# Altium footprint library 杂项库.PcbLib: 585 footprints (part 28 of 37)
Each footprint in its own frame and in the unit in brackets; x right, y up, seen from the top. Pads: shape width x height; smd on the part's side, far side on the other; paste and mask are expansions set on the pad; w line width, h text height; cw(c..) or ccw(c..) is an arc to the next point about the centre after c.
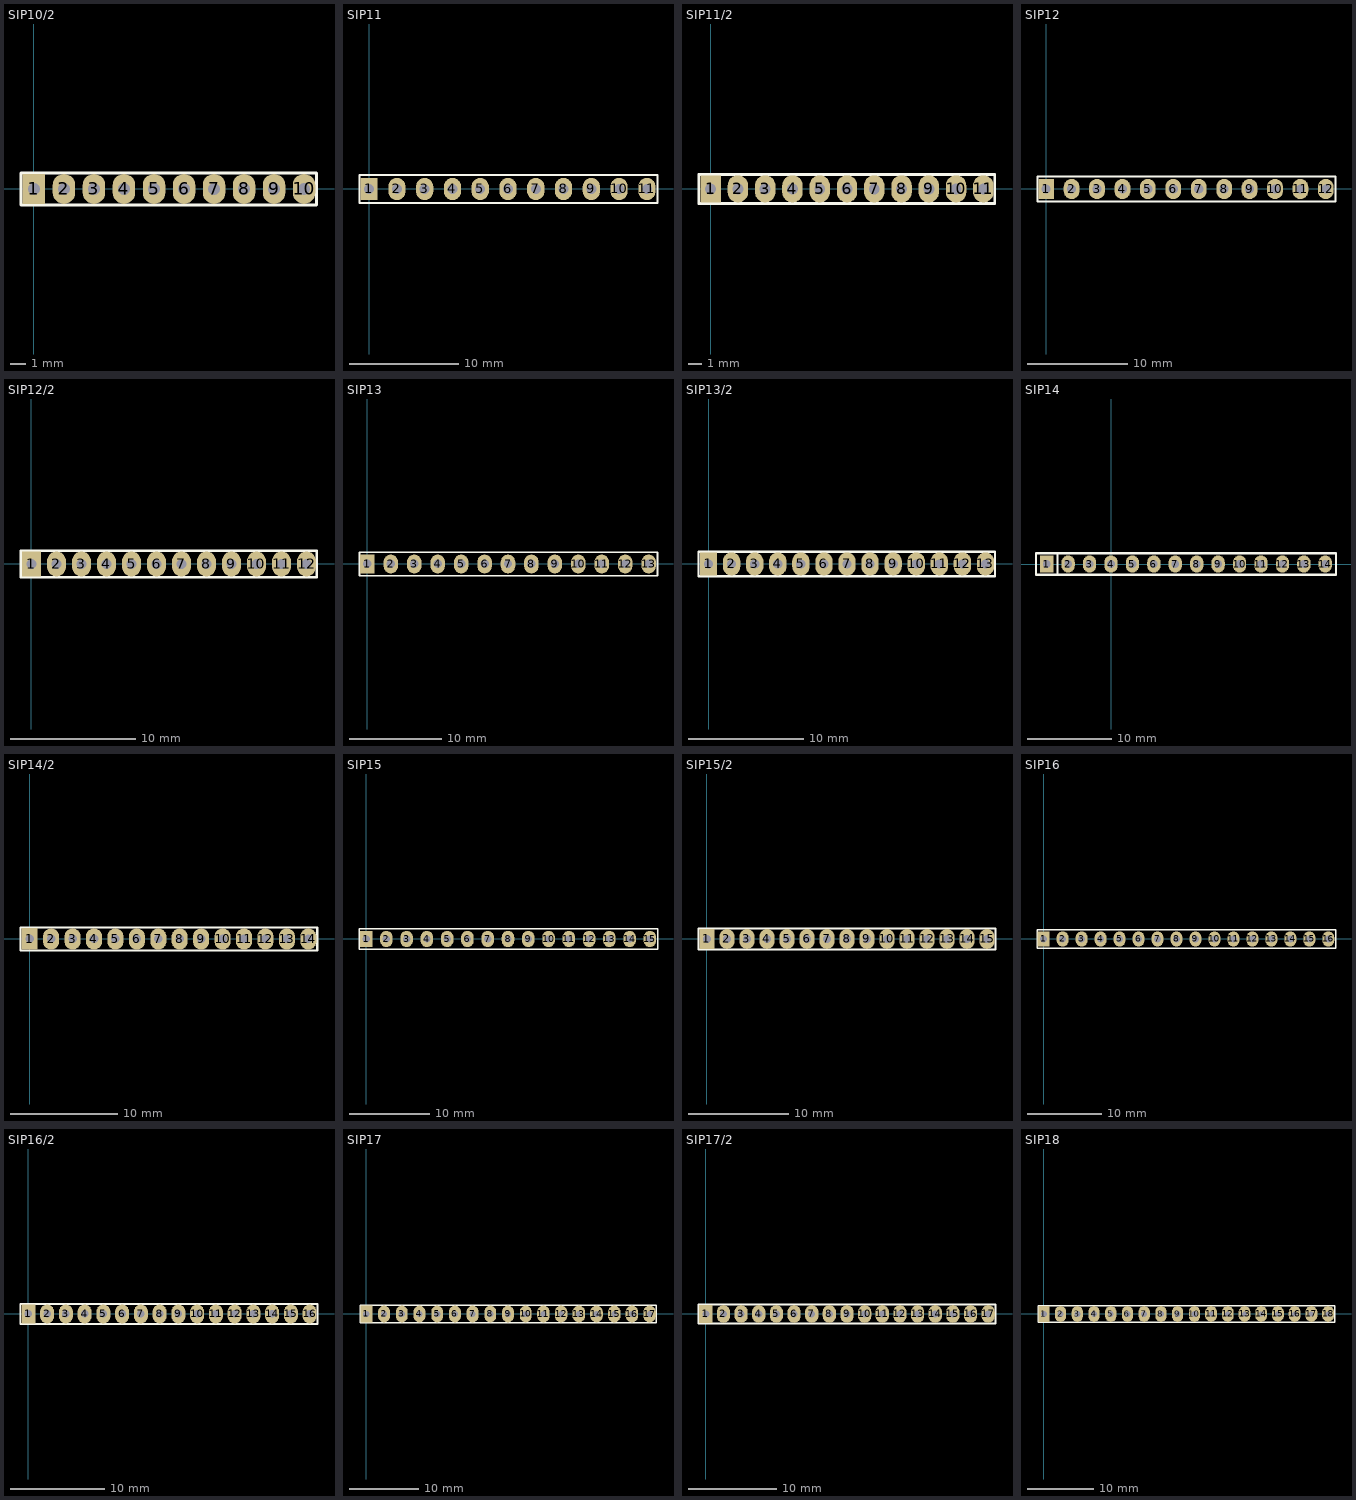
[diagram p27: the footprints below, top view; thin cyan lines are the x and y axes]

## SIP10/2 [mm]
pads (10):
  rect 1.5x2 hole 0.8: 1(0,0)
  oval 1.5x2 hole 0.8: 2(2,0) 3(4,0) 4(6,0) 5(8,0) 6(10,0) 7(12,0) 8(14,0) 9(16,0) 10(18,0)
Top Overlay:
  lines w0.2: -0.865,-1.074 18.835,-1.074 18.835,1.066 -0.865,1.066 -0.865,-1.074

## SIP11 [mil]
pads (11):
  rect 62x80 hole 36: 1(0,0)
  oval 62x80 hole 36: 2(100,0) 3(200,0) 4(300,0) 5(400,0) 6(500,0) 7(600,0) 8(700,0) 9(800,0) 10(900,0) 11(1000,0)
Top Overlay:
  lines w7.87: -34.07,-50.15 -34.07,49.85 1038.37,49.85 1038.37,-50.15 -34.07,-50.15

## SIP11/2 [mm]
pads (11):
  rect 1.5x2 hole 0.8: 1(0,0)
  oval 1.5x2 hole 0.8: 2(2,0) 3(4,0) 4(6,0) 5(8,0) 6(10,0) 7(12,0) 8(14,0) 9(16,0) 10(18,0) 11(20,0)
Top Overlay:
  lines w0.2: -0.865,-1.074 -0.865,1.066 20.835,1.066 20.835,-1.074 -0.865,-1.074

## SIP12 [mil]
pads (12):
  rect 62x80 hole 36: 1(0,0)
  oval 62x80 hole 36: 2(100,0) 3(200,0) 4(300,0) 5(400,0) 6(500,0) 7(600,0) 8(700,0) 9(800,0) 10(900,0) 11(1000,0) 12(1100,0)
Top Overlay:
  lines w7.87: -34.07,-50.15 1138.37,-50.15 1138.37,49.85 -34.07,49.85 -34.07,-50.15

## SIP12/2 [mm]
pads (12):
  rect 1.5x2 hole 0.8: 1(0,0)
  oval 1.5x2 hole 0.8: 2(2,0) 3(4,0) 4(6,0) 5(8,0) 6(10,0) 7(12,0) 8(14,0) 9(16,0) 10(18,0) 11(20,0) 12(22,0)
Top Overlay:
  lines w0.2: -0.865,-1.074 -0.865,1.066 22.835,1.066 22.835,-1.074 -0.865,-1.074

## SIP13 [mil]
pads (13):
  rect 62x80 hole 36: 1(0,0)
  oval 62x80 hole 36: 2(100,0) 3(200,0) 4(300,0) 5(400,0) 6(500,0) 7(600,0) 8(700,0) 9(800,0) 10(900,0) 11(1000,0) 12(1100,0) 13(1200,0)
Top Overlay:
  lines w7.87: -34.07,-50.15 1238.37,-50.15 1238.37,49.85 -34.07,49.85 -34.07,-50.15

## SIP13/2 [mm]
pads (13):
  rect 1.5x2 hole 0.8: 1(0,0)
  oval 1.5x2 hole 0.8: 2(2,0) 3(4,0) 4(6,0) 5(8,0) 6(10,0) 7(12,0) 8(14,0) 9(16,0) 10(18,0) 11(20,0) 12(22,0) 13(24,0)
Top Overlay:
  lines w0.2: -0.865,-1.074 24.835,-1.074 24.835,1.066 -0.865,1.066 -0.865,-1.074

## SIP14 [mil]
pads (14):
  rect 62x80 hole 36: 1(-300,0)
  oval 62x80 hole 36: 2(-200,0) 3(-100,0) 4(0,0) 5(100,0) 6(200,0) 7(300,0) 8(400,0) 9(500,0) 10(600,0) 11(700,0) 12(800,0) 13(900,0) 14(1000,0)
Top Overlay:
  lines w10: -250,-50 -250,50 ; -350,-50 450,-50 1050,-50 1050,50 450,50 -350,50 -350,-50

## SIP14/2 [mm]
pads (14):
  rect 1.5x2 hole 0.8: 1(0,0)
  oval 1.5x2 hole 0.8: 2(2,0) 3(4,0) 4(6,0) 5(8,0) 6(10,0) 7(12,0) 8(14,0) 9(16,0) 10(18,0) 11(20,0) 12(22,0) 13(24,0) 14(26,0)
Top Overlay:
  lines w0.2: -0.865,-1.074 -0.865,1.066 26.835,1.066 26.835,-1.074 -0.865,-1.074

## SIP15 [mil]
pads (15):
  rect 62x80 hole 36: 1(0,0)
  oval 62x80 hole 36: 2(100,0) 3(200,0) 4(300,0) 5(400,0) 6(500,0) 7(600,0) 8(700,0) 9(800,0) 10(900,0) 11(1000,0) 12(1100,0) 13(1200,0) 14(1300,0) 15(1400,0)
Top Overlay:
  lines w7.87: -34.07,-50.15 1438.37,-50.15 1438.37,49.85 -34.07,49.85 -34.07,-50.15

## SIP15/2 [mm]
pads (15):
  rect 1.5x2 hole 0.8: 1(0,0)
  oval 1.5x2 hole 0.8: 2(2,0) 3(4,0) 4(6,0) 5(8,0) 6(10,0) 7(12,0) 8(14,0) 9(16,0) 10(18,0) 11(20,0) 12(22,0) 13(24,0) 14(26,0) 15(28,0)
Top Overlay:
  lines w0.2: -0.865,-1.074 28.835,-1.074 28.835,1.066 -0.865,1.066 -0.865,-1.074

## SIP16 [mil]
pads (16):
  rect 62x80 hole 36: 1(0,0)
  oval 62x80 hole 36: 2(100,0) 3(200,0) 4(300,0) 5(400,0) 6(500,0) 7(600,0) 8(700,0) 9(800,0) 10(900,0) 11(1000,0) 12(1100,0) 13(1200,0) 14(1300,0) 15(1400,0) 16(1500,0)
Top Overlay:
  lines w7.87: -34.07,-50.15 1538.37,-50.15 1538.37,49.85 -34.07,49.85 -34.07,-50.15

## SIP16/2 [mm]
pads (16):
  rect 1.5x2 hole 0.8: 1(0,0)
  oval 1.5x2 hole 0.8: 2(2,0) 3(4,0) 4(6,0) 5(8,0) 6(10,0) 7(12,0) 8(14,0) 9(16,0) 10(18,0) 11(20,0) 12(22,0) 13(24,0) 14(26,0) 15(28,0) 16(30,0)
Top Overlay:
  lines w0.2: -0.865,-1.074 30.835,-1.074 30.835,1.066 -0.865,1.066 -0.865,-1.074

## SIP17 [mm]
pads (17):
  rect 1.7x2.4 hole 0.9: 1(0,0)
  oval 1.7x2.4 hole 0.9: 2(2.54,0) 3(5.08,0) 4(7.62,0) 5(10.16,0) 6(12.7,0) 7(15.24,0) 8(17.78,0) 9(20.32,0) 10(22.86,0)
  oval 1.8x2.4 hole 0.82: 11(25.4,0) 12(27.94,0) 13(30.48,0) 14(33.02,0) 15(35.56,0) 16(38.1,0) 17(40.64,0)
Top Overlay:
  lines w0.2: -0.865,-1.274 41.615,-1.274 41.615,1.266 -0.865,1.266 -0.865,-1.274

## SIP17/2 [mm]
pads (17):
  rect 1.5x2 hole 0.8: 1(0,0)
  oval 1.5x2 hole 0.8: 2(2,0) 3(4,0) 4(6,0) 5(8,0) 6(10,0) 7(12,0) 8(14,0) 9(16,0) 10(18,0) 11(20,0) 12(22,0) 13(24,0) 14(26,0) 15(28,0) 16(30,0) 17(32,0)
Top Overlay:
  lines w0.2: -0.865,-1.074 -0.865,1.066 32.835,1.066 32.835,-1.074 -0.865,-1.074

## SIP18 [mm]
pads (18):
  rect 1.7x2.4 hole 0.9: 1(0,0)
  oval 1.7x2.4 hole 0.9: 2(2.54,0) 3(5.08,0) 4(7.62,0) 5(10.16,0) 6(12.7,0) 7(15.24,0) 8(17.78,0) 9(20.32,0) 10(22.86,0)
  oval 1.8x2.4 hole 0.82: 11(25.4,0) 12(27.94,0) 13(30.48,0) 14(33.02,0) 15(35.56,0) 16(38.1,0) 17(40.64,0) 18(43.18,0)
Top Overlay:
  lines w0.2: -0.865,-1.274 44.155,-1.274 44.155,1.266 -0.865,1.266 -0.865,-1.274